# EAGLE library part USBMINIB (library ublox)
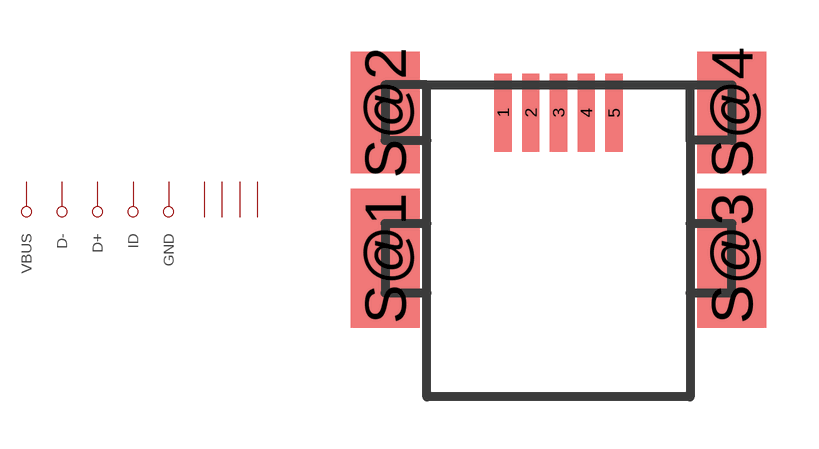
[diagram p13: symbol with the pads of USBMINIB; footprint USBMINIB]

Designator prefix -

## USBMINIB  [USBMINIB]
1  VBUS
2  D-
3  D+
4  ID
5  GND
S@1  P$1
S@2  P$2
S@3  P$3
S@4  P$4

## Footprint USBMINIB (pad centres in mm)
smd 0.5 x 2.25: 1 -1.6,6.2; 2 -0.8,6.2; 3 0,6.2; 4 0.8,6.2; 5 1.6,6.2
smd 2 x 4: S@1 -5,2; S@3 5,2
smd 2 x 3.5: S@2 -5,6.2; S@4 5,6.2